# EAGLE library part ADC,DUAL-QUAD,I2C(ADS1014-5) (library QuantumOptics)
ADC, 10- or 12-bit, dual or quad, I2C, actually the TI ADS1014/5.
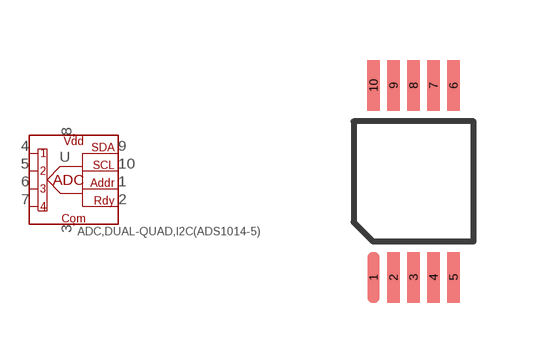
[diagram p214: symbol with the pads of MSOP10; footprint MSOP10]

Designator prefix U

## ADC,DUAL-QUAD,I2C(ADS1014-5)-MSOP10  [MSOP10]
1  ADDR  in
2  RDY  out
3  COM
4  IN1  in
5  IN2  in
6  IN3  in
7  IN4  in
8  VDD
9  SDA
10  SCL  in

## Footprint MSOP10 (pad centres in mm)
MSOP-10, JEDEC MO-187AB. Sameas Maxim's µsop-10 and TI's VSSOP DGA (S-PDSO-G10).
smd 0.305 x 1.27: 1 -1,-2.4; 2 -0.5,-2.4; 3 0,-2.4; 4 0.5,-2.4; 5 1,-2.4; 6 1,2.4; 7 0.5,2.4; 8 0,2.4; 9 -0.5,2.4; 10 -1,2.4